# Altium schematic symbol library LM78xx.SchLib: 8 symbols
Pins are listed as number, name and electrical type; pins without a type are passive.

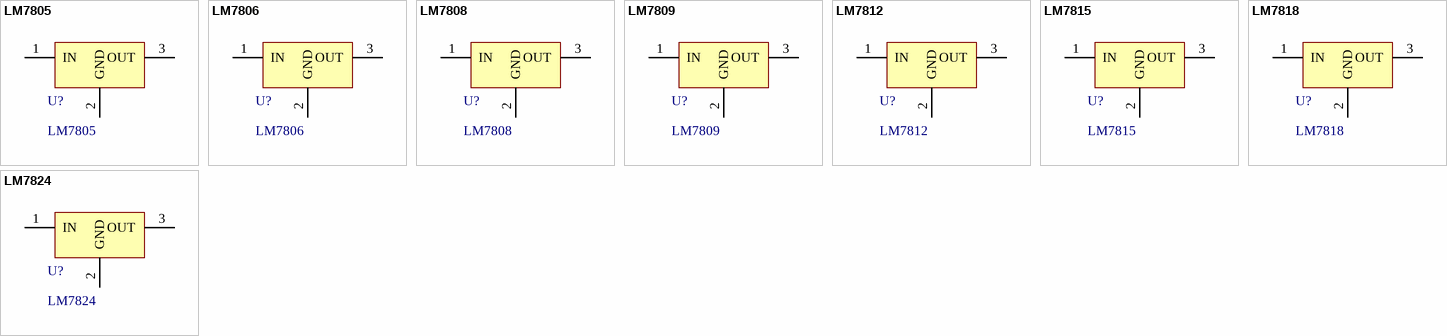
[diagram p0: symbols LM7805 to LM7824]

## LM7805
designator U?
LM7805 - Positive Voltage Regulator
footprint TO-220
pins: 1 IN (power), 2 GND (power), 3 OUT (power)

## LM7806
designator U?
LM7806 - Positive Voltage Regulator
footprint TO-220
pins: 1 IN (power), 2 GND (power), 3 OUT (power)

## LM7808
designator U?
LM7808 - Positive Voltage Regulator
footprint TO-220
pins: 1 IN (power), 2 GND (power), 3 OUT (power)

## LM7809
designator U?
LM7809 - Positive Voltage Regulator
footprint TO-220
pins: 1 IN (power), 2 GND (power), 3 OUT (power)

## LM7812
designator U?
LM7812 - Positive Voltage Regulator
footprint TO-220
pins: 1 IN (power), 2 GND (power), 3 OUT (power)

## LM7815
designator U?
LM7815 - Positive Voltage Regulator
footprint TO-220
pins: 1 IN (power), 2 GND (power), 3 OUT (power)

## LM7818
designator U?
LM7818 - Positive Voltage Regulator
footprint TO-220
pins: 1 IN (power), 2 GND (power), 3 OUT (power)

## LM7824
designator U?
LM7824 - Positive Voltage Regulator
footprint TO-220
pins: 1 IN (power), 2 GND (power), 3 OUT (power)